# EAGLE library part BUCK_CONVERTER2 (library SOIC127P600X170-8N)
Used for IRISC: Buck converter Supply voltage range: 3.5 - 36 V Output voltage : 5 V Output current: 3A
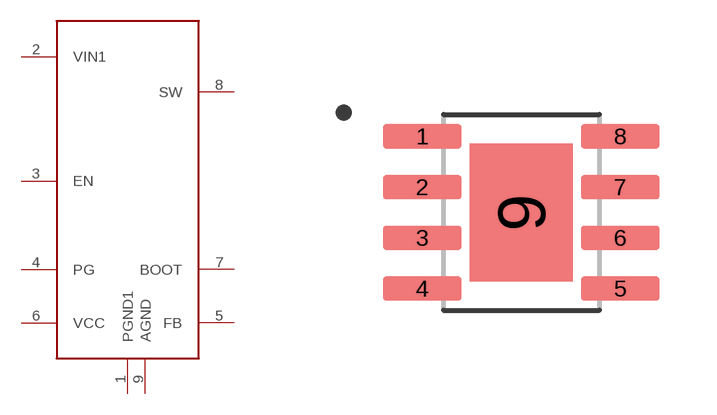
[diagram p0: symbol with the pads of SOIC127P600X170-8N; footprint SOIC127P600X170-8N]

Designator prefix U2

## BUCK_CONVERTER2  [SOIC127P600X170-8N]
1  PGND1  sup
2  VIN1  pwr
3  EN  in
4  PG  oc
5  FB  in
6  VCC  pwr
7  BOOT  hiz
8  SW  pwr
9  AGND  sup

## Footprint SOIC127P600X170-8N (pad centres in mm)
smd 1.97 x 0.6: 1 -2.475,1.905; 2 -2.475,0.635; 3 -2.475,-0.635; 4 -2.475,-1.905; 5 2.475,-1.905; 6 2.475,-0.635; 7 2.475,0.635; 8 2.475,1.905
smd 2.58 x 3.45: 9 0,0